# EAGLE library part 5520425-3 (library main_board)
CONN MOD JACK 6P6C VERT UNSHLD
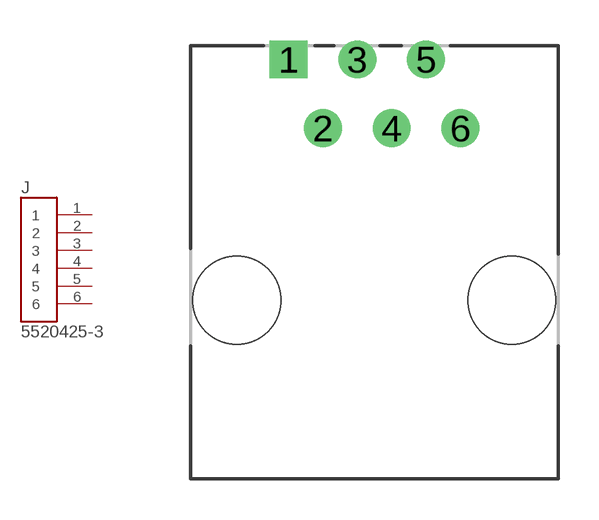
[diagram p0: symbol with the pads of TE_5520425-3; footprint TE_5520425-3]

Designator prefix J

## 5520425-3 (CENTERLINE_PITCH: 1.02 mm[.04 in]; COMMENT: 5520425-3; DESCRIPTION: Conn RJ-25 F 6 POS 2.54mm Solder ST Thru-Hole 6 Terminal 1 Port Cat 3 Box/Package/Tray; DIGI-KEY_PART_NUMBER: A31415-ND; DIGI-KEY_PURCHASE_URL: https://www.digikey.com/product-detail/en/te-connectivity-amp-connectors/5520425-3/A31415-ND/769559?utm_source=snapeda&utm_medium=aggregator&utm_campaign=symbol; EU_ROHS_COMPLIANCE: Compliant; MF: TE Connectivity; MP: 5520425-3; NUMBER_OF_POSITIONS: 6; PACKAGE: None; TE_PURCHASE_URL: https://www.te.com/usa-en/product-5520425-3.html?te_bu=Cor&te_type=disp&te_campaign=seda_glo_cor-seda-global-disp-prtnr-fy19-seda-model-bom-cta_sma-317_1&elqCampaignId=32493)  [TE_5520425-3]
1  1  pas
2  2  pas
3  3  pas
4  4  pas
5  5  pas
6  6  pas

## Footprint TE_5520425-3 (pad centres in mm)
drill 0.89 square: 1 0,0
drill 0.89: 2 1.27,-2.54; 3 2.54,0; 4 3.81,-2.54; 5 5.08,0; 6 6.35,-2.54
hole 3.25 at -1.91,-8.89
hole 3.25 at 8.25,-8.89